# EAGLE library part MTA6 (library lib_paul)
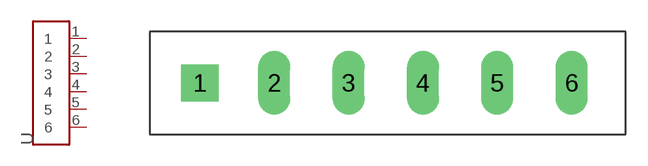
[diagram p2: symbol with the pads of CON6-5.08; footprint CON6-5.08]

Designator prefix -

## MTA6  [CON6-5.08]
1  1
2  2
3  3
4  4
5  5
6  6

## Footprint CON6-5.08 (pad centres in mm)
drill 1.2 pad 2.54 square: 1 -10.16,0
drill 1.2 pad 2.184 long: 2 -5.08,0; 3 0,0; 4 5.08,0; 5 10.16,0; 6 15.24,0